# EAGLE library part TDSO1160 (library lcd)
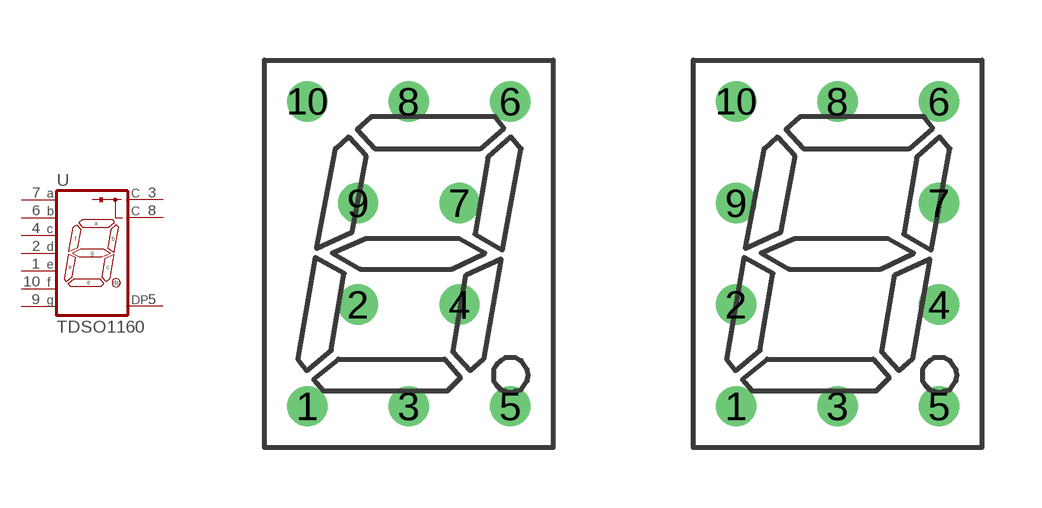
[diagram p3: symbol with the pads of TDSX1150; footprints TDSX1150, TDSX1150-2.54]

Designator prefix -

## TDSO1160  [TDSX1150]
1  E  pas
2  D  pas
3  C  pas
4  C  pas
5  DP  pas
6  B  pas
7  A  pas
8  C  pas
9  G  pas
10  F  pas

## TDSO1160-2.54  [TDSX1150-2.54]
Pads as for TDSX1150

## TDSO1160-X  [TDSX1150-2.54]
1  B  pas
3  C  pas
5  F  pas

## Footprint TDSX1150 (pad centres in mm)
drill 0.5: 1 -2.54,-3.81; 2 -1.27,-1.27; 3 0,-3.81; 4 1.27,-1.27; 5 2.54,-3.81; 6 2.54,3.81; 7 1.27,1.27; 8 0,3.81; 9 -1.27,1.27; 10 -2.54,3.81

## Footprint TDSX1150-2.54 (pad centres in mm)
drill 0.5: 1 -2.54,-3.81; 2 -2.54,-1.27; 3 0,-3.81; 4 2.54,-1.27; 5 2.54,-3.81; 6 2.54,3.81; 7 2.54,1.27; 8 0,3.81; 9 -2.54,1.27; 10 -2.54,3.81